# EAGLE library part C14 (library con-ninigi-3.96)
NINIGI
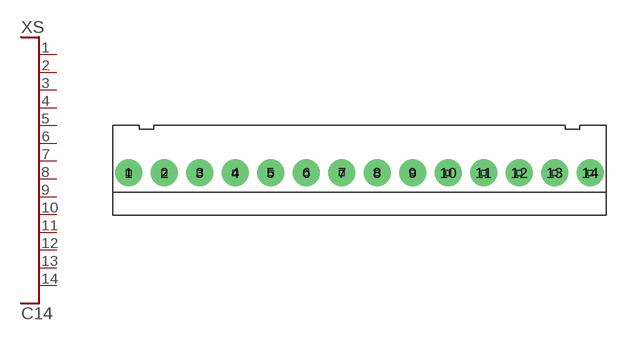
[diagram p8: symbol with the pads of NINIGI14C; footprint NINIGI14C]

Designator prefix XS

## C14  [NINIGI14C]
1  P$1
2  P$2
3  P$3
4  P$4
5  P$5
6  P$6
7  P$7
8  P$8
9  P$9
10  P$10
11  P$11
12  P$12
13  P$13
14  P$14

## Footprint NINIGI14C (pad centres in mm)
drill 1.6 pad 3: 1 -25.74,0; 2 -21.78,0; 3 -17.82,0; 4 -13.86,0; 5 -9.9,0; 6 -5.94,0; 7 -1.98,0; 8 1.98,0; 9 5.94,0; 10 9.9,0; 11 13.86,0; 12 17.82,0; 13 21.78,0; 14 25.74,0